# EAGLE library part SN74LVC2G34 (library LOGIC)
IC BUFFER DUAL NON-INV Datasheet <http://www.ti.com/lit/ds/symlink/sn74lvc2g34.pdf>
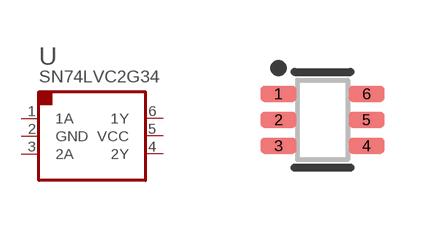
[diagram p0: symbol with the pads of SC-70-6; footprint SC-70-6]

Designator prefix U

## SN74LVC2G34DCK (PARTNO: 01-100279-00)  [SC-70-6]
1  1A  in
2  GND  pwr
3  2A  in
4  2Y  out
5  VCC  pwr
6  1Y  out

## Footprint SC-70-6 (pad centres in mm)
SC-70-6 / SOT363 / TSSOP-6, 6-Leads, Body 2.00x2.10mm, Pitch 0.65mm, IPC Medium Density Changelog: 01/23/15 - Rounded pads 50%. Update description. New tDocu. Shrink and adjust pads to IPC. CN 10/30/13 - Changes to pads to tighten up area. Update tPlace for consistency. CN 04/16/13 - Rotate package. Change tPlace and text for better look (mm grid). CN
smd 0.9 x 0.4: 1 -1.1,0.65; 2 -1.1,0; 3 -1.1,-0.65; 4 1.1,-0.65; 5 1.1,0; 6 1.1,0.65